# Altium footprint library 1935161.PcbLib: 1 footprints
Each footprint in its own frame and in the unit in brackets; x right, y up, seen from the top. Pads: shape width x height; smd on the part's side, far side on the other; paste and mask are expansions set on the pad; w line width, h text height; cw(c..) or ccw(c..) is an arc to the next point about the centre after c.
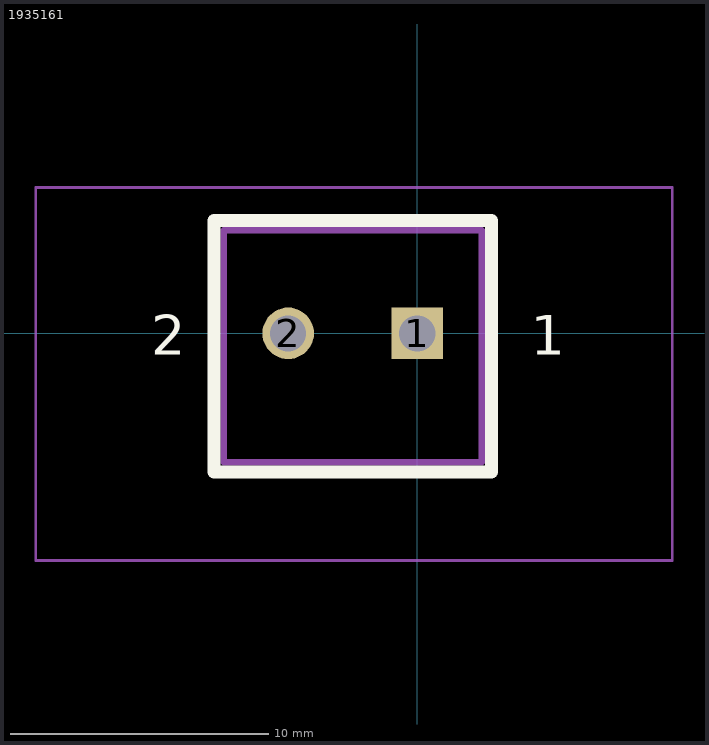
[diagram p0: the footprint, top view; thin cyan lines are the x and y axes]

## 1935161 [mm] "TERM BLOCK PCB 2POS 5.0MM GREEN"
height 11.4
pads (2):
  rect 2x2 hole 1.4: 1(0,0)
  round 2 hole 1.4: 2(-5,0)
Top Overlay:
  lines w0.5: -7.875,-5.375 2.875,-5.375 2.875,4.375 -7.875,4.375 -7.875,-5.375
  text "2" at -10.3,-0.825 h1.52
  text "1" at 4.4,-0.825 h1.52
Mechanical 1:
  lines w0.254: -7.5,-5 -7.5,4 2.5,4 2.5,-5 -7.5,-5
Mechanical 2:
  text "Terminal Opening" at -14.075,-7.7 h1.52
Mechanical 3:
  lines w0.1: -14.775,-8.8 -14.775,5.65 9.875,5.65 9.875,-8.8 -14.775,-8.8
3D body: height 11.4, standoff 0, extent -7.5,-5 2.5,4